# Altium schematic symbol library ADPL40502AUJZ-1.2-R7.SchLib: 1 symbol
Pins are listed as number, name and electrical type; pins without a type are passive.

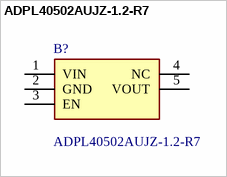
[diagram p0: symbol ADPL40502AUJZ-1.2-R7]

## ADPL40502AUJZ-1.2-R7
designator B?
Low Noise, 200mA, CMOS Linear Regulator; Manufacturer_Name: Analog Devices; Geometry.Height: 1mm; Mouser Part Number: *; Mouser Price/Stock: *; Manufacturer_Part_Number: ADPL40502AUJZ-1.2-R7; Datasheet Link: https://www.analog.com/ADPL40502/datasheet
footprint SOT95P280X100-5N
pins: 1 VIN, 2 GND, 3 EN, 4 NC, 5 VOUT